# Altium schematic symbol library WR-TBL_Spring Clamp.SchLib: 367 symbols (part 2 of 6)
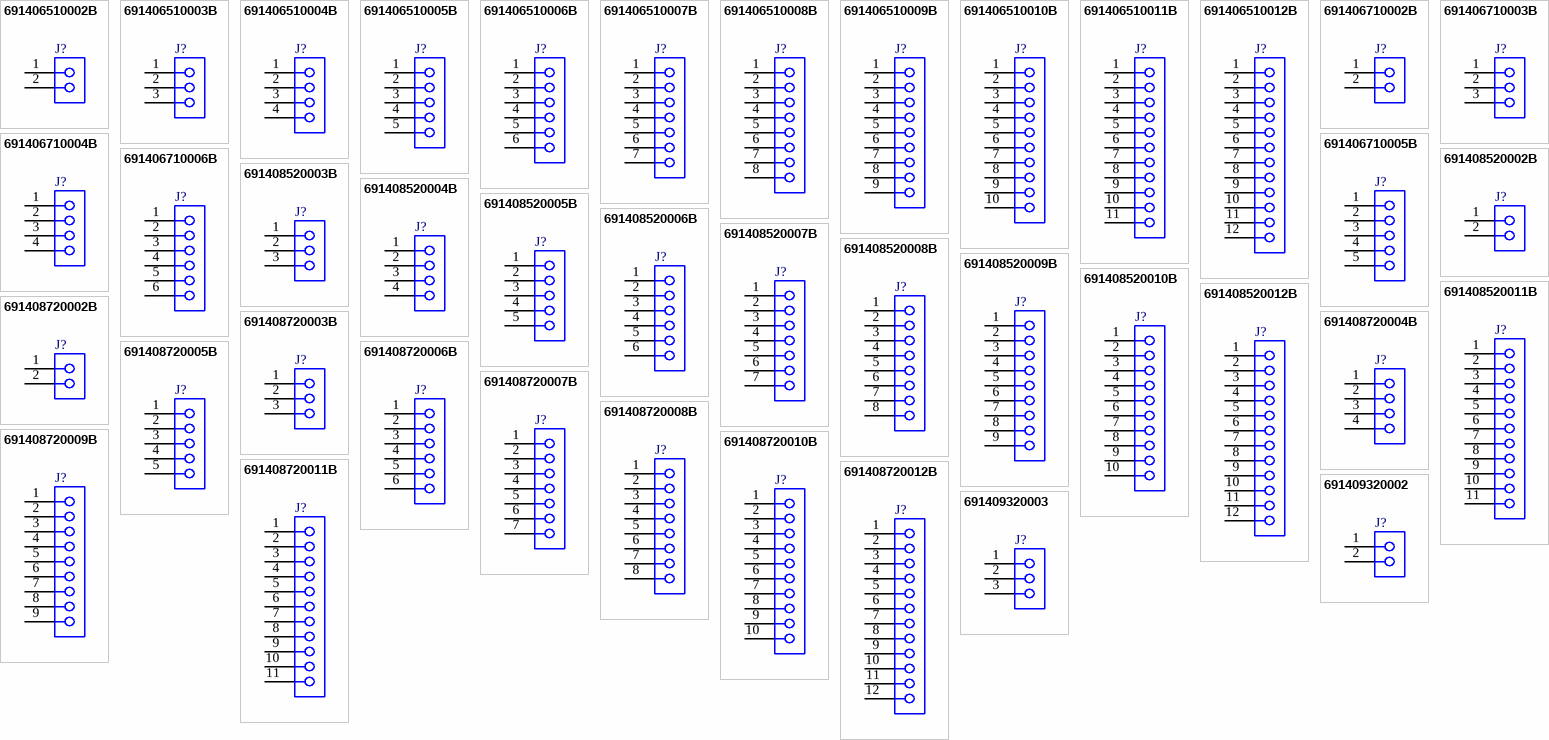
[diagram p10: symbols 691406510002B to 691409320003]

## 691408520007B
designator J?  (value not drawn)
WR-TBL Series 4085B Screwless Push In 45° cable entry, THT, pitch 5.08mm, 07p; Manufacturer: Wurth Elektronik; Modularity: Yes; Rated Current: 15A; Working Voltage: 300V (AC); Manufacturer Part Number: 691408520007B; Product Series: WR-TBL; ComponentLink1Description: Website Link; ComponentLink1URL: https://www.we-online.com; ComponentLink2Description: Datasheet Link; ComponentLink2URL: https://www.we-online.com/components/products/datasheet/691408520007B; Mount: Through Hole; Operating Temperature Min: -40degC; Operating Temperature Max: 105degC; Packaging: Carton; Application: Screwless Push In; Number of Pins: 7; Number of Rows: 1; Orientation: 45deg Cable Entry; Lead Pitch: 5.08mm
footprint 691408520007B
pins: 1, 2, 3, 4, 5, 6, 7

## 691408520008B
designator J?  (value not drawn)
WR-TBL Series 4085B Screwless Push In 45° cable entry, THT, pitch 5.08mm, 08p; Manufacturer: Wurth Elektronik; Modularity: Yes; Rated Current: 15A; Working Voltage: 300V (AC); Manufacturer Part Number: 691408520008B; Product Series: WR-TBL; ComponentLink1Description: Website Link; ComponentLink1URL: https://www.we-online.com; ComponentLink2Description: Datasheet Link; ComponentLink2URL: https://www.we-online.com/components/products/datasheet/691408520008B; Mount: Through Hole; Operating Temperature Min: -40degC; Operating Temperature Max: 105degC; Packaging: Carton; Application: Screwless Push In; Number of Pins: 8; Number of Rows: 1; Orientation: 45deg Cable Entry; Lead Pitch: 5.08mm
footprint 691408520008B
pins: 1, 2, 3, 4, 5, 6, 7, 8

## 691408520009B
designator J?  (value not drawn)
WR-TBL Series 4085B Screwless Push In 45° cable entry, THT, pitch 5.08mm, 09p; Manufacturer: Wurth Elektronik; Modularity: Yes; Rated Current: 15A; Working Voltage: 300V (AC); Manufacturer Part Number: 691408520009B; Product Series: WR-TBL; ComponentLink1Description: Website Link; ComponentLink1URL: https://www.we-online.com; ComponentLink2Description: Datasheet Link; ComponentLink2URL: https://www.we-online.com/components/products/datasheet/691408520009B; Mount: Through Hole; Operating Temperature Min: -40degC; Operating Temperature Max: 105degC; Packaging: Carton; Application: Screwless Push In; Number of Pins: 9; Number of Rows: 1; Orientation: 45deg Cable Entry; Lead Pitch: 5.08mm
footprint 691408520009B
pins: 1, 2, 3, 4, 5, 6, 7, 8, 9

## 691408520010B
designator J?  (value not drawn)
WR-TBL Series 4085B Screwless Push In 45° cable entry, THT, pitch 5.08mm, 10p; Manufacturer: Wurth Elektronik; Modularity: Yes; Rated Current: 15A; Working Voltage: 300V (AC); Manufacturer Part Number: 691408520010B; Product Series: WR-TBL; ComponentLink1Description: Website Link; ComponentLink1URL: https://www.we-online.com; ComponentLink2Description: Datasheet Link; ComponentLink2URL: https://www.we-online.com/components/products/datasheet/691408520010B; Mount: Through Hole; Operating Temperature Min: -40degC; Operating Temperature Max: 105degC; Packaging: Carton; Application: Screwless Push In; Number of Pins: 10; Number of Rows: 1; Orientation: 45deg Cable Entry; Lead Pitch: 5.08mm
footprint 691408520010B
pins: 1, 2, 3, 4, 5, 6, 7, 8, 9, 10

## 691408520011B
designator J?  (value not drawn)
WR-TBL Series 4085B Screwless Push In 45° cable entry, THT, pitch 5.08mm, 11p; Manufacturer: Wurth Elektronik; Modularity: Yes; Rated Current: 15A; Working Voltage: 300V (AC); Manufacturer Part Number: 691408520011B; Product Series: WR-TBL; ComponentLink1Description: Website Link; ComponentLink1URL: https://www.we-online.com; ComponentLink2Description: Datasheet Link; ComponentLink2URL: https://www.we-online.com/components/products/datasheet/691408520011B; Mount: Through Hole; Operating Temperature Min: -40degC; Operating Temperature Max: 105degC; Packaging: Carton; Application: Screwless Push In; Number of Pins: 11; Number of Rows: 1; Orientation: 45deg Cable Entry; Lead Pitch: 5.08mm
footprint 691408520011B
pins: 1, 2, 3, 4, 5, 6, 7, 8, 9, 10, 11

## 691408520012B
designator J?  (value not drawn)
WR-TBL Series 4085B Screwless Push In 45° cable entry, THT, pitch 5.08mm, 12p; Manufacturer: Wurth Elektronik; Modularity: Yes; Rated Current: 15A; Working Voltage: 300V (AC); Manufacturer Part Number: 691408520012B; Product Series: WR-TBL; ComponentLink1Description: Website Link; ComponentLink1URL: https://www.we-online.com; ComponentLink2Description: Datasheet Link; ComponentLink2URL: https://www.we-online.com/components/products/datasheet/691408520012B; Mount: Through Hole; Operating Temperature Min: -40degC; Operating Temperature Max: 105degC; Packaging: Carton; Application: Screwless Push In; Number of Pins: 12; Number of Rows: 1; Orientation: 45deg Cable Entry; Lead Pitch: 5.08mm
footprint 691408520012B
pins: 1, 2, 3, 4, 5, 6, 7, 8, 9, 10, 11, 12

## 691408720002B
designator J?  (value not drawn)
WR-TBL Series 4087B 45° cable entry, THT, pitch 5mm, 02p; Manufacturer: Wurth Elektronik; Modularity: Yes; Rated Current: 15A; Wire Section: 28 to 12 (AWG) 0.2 to 2.5 (mm^2); Working Voltage: 300V (AC); Manufacturer Part Number: 691408720002B; Product Series: WR-TBL; ComponentLink1Description: Website Link; ComponentLink1URL: https://www.we-online.com; ComponentLink2Description: Datasheet Link; ComponentLink2URL: https://www.we-online.com/components/products/datasheet/691408720002B; Mount: Through Hole; Operating Temperature Min: -40degC; Operating Temperature Max: 105degC; Packaging: Carton; Application: Screwless Push In; Number of Pins: 2; Number of Rows: 1; Orientation: 45deg Cable Entry; Lead Pitch: 5mm
footprint 691408720002B
pins: 1, 2

## 691408720003B
designator J?  (value not drawn)
WR-TBL Series 4087B 45° cable entry, THT, pitch 5mm, 03p; Manufacturer: Wurth Elektronik; Modularity: Yes; Rated Current: 15A; Wire Section: 28 to 12 (AWG) 0.2 to 2.5 (mm^2); Working Voltage: 300V (AC); Manufacturer Part Number: 691408720003B; Product Series: WR-TBL; ComponentLink1Description: Website Link; ComponentLink1URL: https://www.we-online.com; ComponentLink2Description: Datasheet Link; ComponentLink2URL: https://www.we-online.com/components/products/datasheet/691408720003B; Mount: Through Hole; Operating Temperature Min: -40degC; Operating Temperature Max: 105degC; Packaging: Carton; Application: Screwless Push In; Number of Pins: 3; Number of Rows: 1; Orientation: 45deg Cable Entry; Lead Pitch: 5mm
footprint 691408720003B
pins: 1, 2, 3

## 691408720004B
designator J?  (value not drawn)
WR-TBL Series 4087B 45° cable entry, THT, pitch 5mm, 04p; Manufacturer: Wurth Elektronik; Modularity: Yes; Rated Current: 15A; Wire Section: 28 to 12 (AWG) 0.2 to 2.5 (mm^2); Working Voltage: 300V (AC); Manufacturer Part Number: 691408720004B; Product Series: WR-TBL; ComponentLink1Description: Website Link; ComponentLink1URL: https://www.we-online.com; ComponentLink2Description: Datasheet Link; ComponentLink2URL: https://www.we-online.com/components/products/datasheet/691408720004B; Mount: Through Hole; Operating Temperature Min: -40degC; Operating Temperature Max: 105degC; Packaging: Carton; Application: Screwless Push In; Number of Pins: 4; Number of Rows: 1; Orientation: 45deg Cable Entry; Lead Pitch: 5mm
footprint 691408720004B
pins: 1, 2, 3, 4

## 691408720005B
designator J?  (value not drawn)
WR-TBL Series 4087B 45° cable entry, THT, pitch 5mm, 05p; Manufacturer: Wurth Elektronik; Modularity: Yes; Rated Current: 15A; Wire Section: 28 to 12 (AWG) 0.2 to 2.5 (mm^2); Working Voltage: 300V (AC); Manufacturer Part Number: 691408720005B; Product Series: WR-TBL; ComponentLink1Description: Website Link; ComponentLink1URL: https://www.we-online.com; ComponentLink2Description: Datasheet Link; ComponentLink2URL: https://www.we-online.com/components/products/datasheet/691408720005B; Mount: Through Hole; Operating Temperature Min: -40degC; Operating Temperature Max: 105degC; Packaging: Carton; Application: Screwless Push In; Number of Pins: 5; Number of Rows: 1; Orientation: 45deg Cable Entry; Lead Pitch: 5mm
footprint 691408720005B
pins: 1, 2, 3, 4, 5

## 691408720006B
designator J?  (value not drawn)
WR-TBL Series 4087B 45° cable entry, THT, pitch 5mm, 06p; Manufacturer: Wurth Elektronik; Modularity: Yes; Rated Current: 15A; Wire Section: 28 to 12 (AWG) 0.2 to 2.5 (mm^2); Working Voltage: 300V (AC); Manufacturer Part Number: 691408720006B; Product Series: WR-TBL; ComponentLink1Description: Website Link; ComponentLink1URL: https://www.we-online.com; ComponentLink2Description: Datasheet Link; ComponentLink2URL: https://www.we-online.com/components/products/datasheet/691408720006B; Mount: Through Hole; Operating Temperature Min: -40degC; Operating Temperature Max: 105degC; Packaging: Carton; Application: Screwless Push In; Number of Pins: 6; Number of Rows: 1; Orientation: 45deg Cable Entry; Lead Pitch: 5mm
footprint 691408720006B
pins: 1, 2, 3, 4, 5, 6

## 691408720007B
designator J?  (value not drawn)
WR-TBL Series 4087B 45° cable entry, THT, pitch 5mm, 07p; Manufacturer: Wurth Elektronik; Modularity: Yes; Rated Current: 15A; Working Voltage: 300V (AC); Manufacturer Part Number: 691408720007B; Product Series: WR-TBL; ComponentLink1Description: Website Link; ComponentLink1URL: https://www.we-online.com; ComponentLink2Description: Datasheet Link; ComponentLink2URL: https://www.we-online.com/components/products/datasheet/691408720007B; Mount: Through Hole; Operating Temperature Min: -40degC; Operating Temperature Max: 105degC; Packaging: Carton; Application: Screwless Push In; Number of Pins: 7; Number of Rows: 1; Orientation: 45deg Cable Entry; Lead Pitch: 5mm
footprint 691408720007B
pins: 1, 2, 3, 4, 5, 6, 7

## 691408720008B
designator J?  (value not drawn)
WR-TBL Series 4087B 45° cable entry, THT, pitch 5mm, 08p; Manufacturer: Wurth Elektronik; Modularity: Yes; Rated Current: 15A; Working Voltage: 300V (AC); Manufacturer Part Number: 691408720008B; Product Series: WR-TBL; ComponentLink1Description: Website Link; ComponentLink1URL: https://www.we-online.com; ComponentLink2Description: Datasheet Link; ComponentLink2URL: https://www.we-online.com/components/products/datasheet/691408720008B; Mount: Through Hole; Operating Temperature Min: -40degC; Operating Temperature Max: 105degC; Packaging: Carton; Application: Screwless Push In; Number of Pins: 8; Number of Rows: 1; Orientation: 45deg Cable Entry; Lead Pitch: 5mm
footprint 691408720008B
pins: 1, 2, 3, 4, 5, 6, 7, 8

## 691408720009B
designator J?  (value not drawn)
WR-TBL Series 4087B 45° cable entry, THT, pitch 5mm, 09p; Manufacturer: Wurth Elektronik; Modularity: Yes; Rated Current: 15A; Working Voltage: 300V (AC); Manufacturer Part Number: 691408720009B; Product Series: WR-TBL; ComponentLink1Description: Website Link; ComponentLink1URL: https://www.we-online.com; ComponentLink2Description: Datasheet Link; ComponentLink2URL: https://www.we-online.com/components/products/datasheet/691408720009B; Mount: Through Hole; Operating Temperature Min: -40degC; Operating Temperature Max: 105degC; Packaging: Carton; Application: Screwless Push In; Number of Pins: 9; Number of Rows: 1; Orientation: 45deg Cable Entry; Lead Pitch: 5mm
footprint 691408720009B
pins: 1, 2, 3, 4, 5, 6, 7, 8, 9

## 691408720010B
designator J?  (value not drawn)
WR-TBL Series 4087B 45° cable entry, THT, pitch 5mm, 10p; Manufacturer: Wurth Elektronik; Modularity: Yes; Rated Current: 15A; Working Voltage: 300V (AC); Manufacturer Part Number: 691408720010B; Product Series: WR-TBL; ComponentLink1Description: Website Link; ComponentLink1URL: https://www.we-online.com; ComponentLink2Description: Datasheet Link; ComponentLink2URL: https://www.we-online.com/components/products/datasheet/691408720010B; Mount: Through Hole; Operating Temperature Min: -40degC; Operating Temperature Max: 105degC; Packaging: Carton; Application: Screwless Push In; Number of Pins: 10; Number of Rows: 1; Orientation: 45deg Cable Entry; Lead Pitch: 5mm
footprint 691408720010B
pins: 1, 2, 3, 4, 5, 6, 7, 8, 9, 10

## 691408720011B
designator J?  (value not drawn)
WR-TBL Series 4087B 45° cable entry, THT, pitch 5mm, 11p; Manufacturer: Wurth Elektronik; Modularity: Yes; Rated Current: 15A; Working Voltage: 300V (AC); Manufacturer Part Number: 691408720011B; Product Series: WR-TBL; ComponentLink1Description: Website Link; ComponentLink1URL: https://www.we-online.com; ComponentLink2Description: Datasheet Link; ComponentLink2URL: https://www.we-online.com/components/products/datasheet/691408720011B; Mount: Through Hole; Operating Temperature Min: -40degC; Operating Temperature Max: 105degC; Packaging: Carton; Application: Screwless Push In; Number of Pins: 11; Number of Rows: 1; Orientation: 45deg Cable Entry; Lead Pitch: 5mm
footprint 691408720011B
pins: 1, 2, 3, 4, 5, 6, 7, 8, 9, 10, 11

## 691408720012B
designator J?  (value not drawn)
WR-TBL Series 4087B 45° cable entry, THT, pitch 5mm, 12p; Manufacturer: Wurth Elektronik; Modularity: Yes; Rated Current: 15A; Working Voltage: 300V (AC); Manufacturer Part Number: 691408720012B; Product Series: WR-TBL; ComponentLink1Description: Website Link; ComponentLink1URL: https://www.we-online.com; ComponentLink2Description: Datasheet Link; ComponentLink2URL: https://www.we-online.com/components/products/datasheet/691408720012B; Mount: Through Hole; Operating Temperature Min: -40degC; Operating Temperature Max: 105degC; Packaging: Carton; Application: Screwless Push In; Number of Pins: 12; Number of Rows: 1; Orientation: 45deg Cable Entry; Lead Pitch: 5mm
footprint 691408720012B
pins: 1, 2, 3, 4, 5, 6, 7, 8, 9, 10, 11, 12

## 691409320002
designator J?  (value not drawn)
WR-TBL Series 4093 Push In 45° cable entry, THT, pitch 3.81mm, 02p; Manufacturer: Wurth Elektronik; Modularity: Yes; Rated Current: 10A; Wire Section: 26 to 16 (AWG) 0.2 to 1.5 (mm^2); Working Voltage: 300V (AC); Manufacturer Part Number: 691409320002; Product Series: WR-TBL; ComponentLink1Description: Website Link; ComponentLink1URL: https://www.we-online.com; ComponentLink2Description: Datasheet Link; ComponentLink2URL: https://www.we-online.com/components/products/datasheet/691409320002; Mount: Through Hole; Operating Temperature Min: -40degC; Operating Temperature Max: 115degC; Packaging: Box; Application: Screwless Push In; Number of Pins: 2; Number of Rows: 1; Orientation: 45deg Cable Entry; Lead Pitch: 3.81mm
footprint 691409320002
pins: 1, 2

## 691409320003
designator J?  (value not drawn)
WR-TBL Series 4093 Push In 45° cable entry, THT, pitch 3.81mm, 03p; Manufacturer: Wurth Elektronik; Modularity: Yes; Rated Current: 10A; Wire Section: 26 to 16 (AWG) 0.2 to 1.5 (mm^2); Working Voltage: 300V (AC); Manufacturer Part Number: 691409320003; Product Series: WR-TBL; ComponentLink1Description: Website Link; ComponentLink1URL: https://www.we-online.com; ComponentLink2Description: Datasheet Link; ComponentLink2URL: https://www.we-online.com/components/products/datasheet/691409320003; Mount: Through Hole; Operating Temperature Min: -40degC; Operating Temperature Max: 115degC; Packaging: Box; Application: Screwless Push In; Number of Pins: 3; Number of Rows: 1; Orientation: 45deg Cable Entry; Lead Pitch: 3.81mm
footprint 691409320003
pins: 1, 2, 3

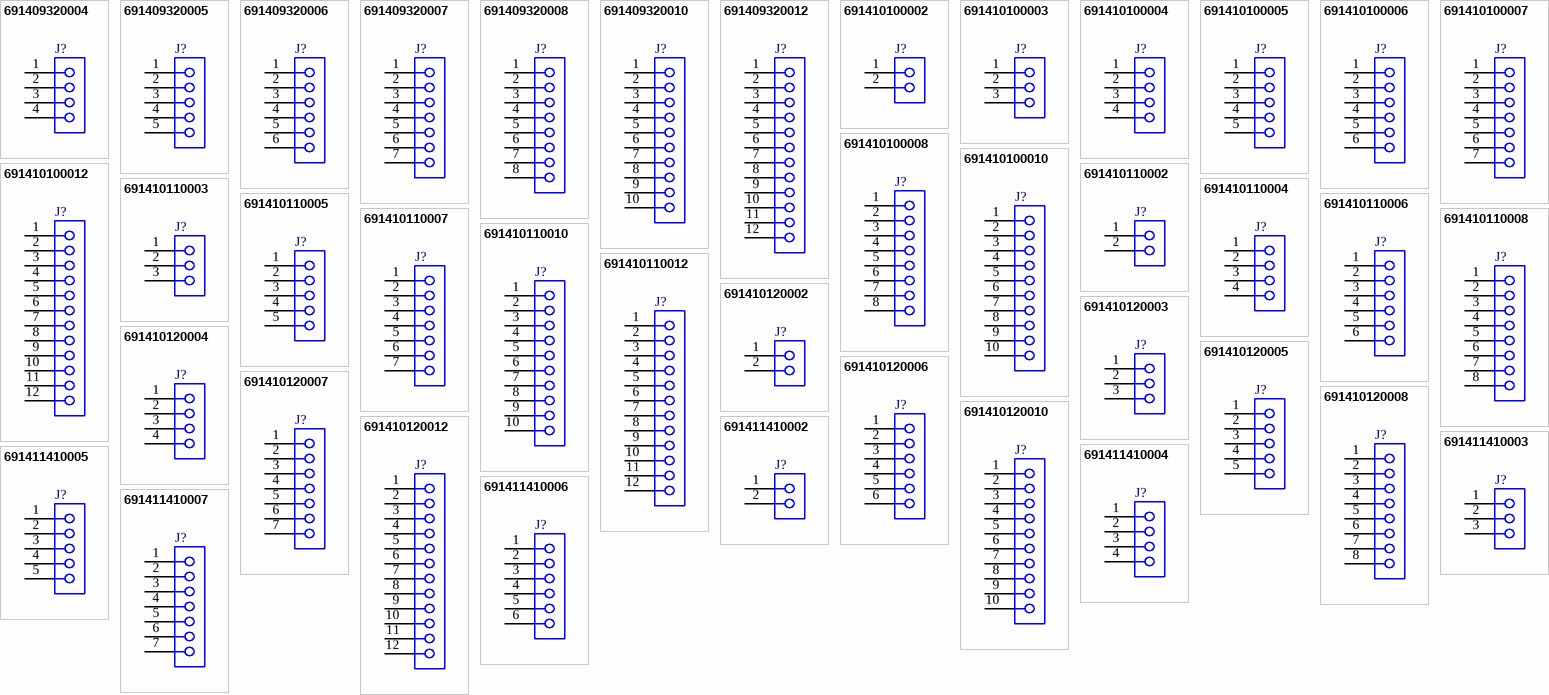
[diagram p2: symbols 691409320004 to 691411410007]

## 691409320004
designator J?  (value not drawn)
WR-TBL Series 4093 Push In 45° cable entry, THT, pitch 3.81mm, 04p; Manufacturer: Wurth Elektronik; Modularity: Yes; Rated Current: 10A; Wire Section: 26 to 16 (AWG) 0.2 to 1.5 (mm^2); Working Voltage: 300V (AC); Manufacturer Part Number: 691409320004; Product Series: WR-TBL; ComponentLink1Description: Website Link; ComponentLink1URL: https://www.we-online.com; ComponentLink2Description: Datasheet Link; ComponentLink2URL: https://www.we-online.com/components/products/datasheet/691409320004; Mount: Through Hole; Operating Temperature Min: -40degC; Operating Temperature Max: 115degC; Packaging: Box; Application: Screwless Push In; Number of Pins: 4; Number of Rows: 1; Orientation: 45deg Cable Entry; Lead Pitch: 3.81mm
footprint 691409320004
pins: 1, 2, 3, 4

## 691409320005
designator J?  (value not drawn)
WR-TBL Series 4093 Push In 45° cable entry, THT, pitch 3.81mm, 05p; Manufacturer: Wurth Elektronik; Modularity: Yes; Rated Current: 10A; Wire Section: 26 to 16 (AWG) 0.2 to 1.5 (mm^2); Working Voltage: 300V (AC); Manufacturer Part Number: 691409320005; Product Series: WR-TBL; ComponentLink1Description: Website Link; ComponentLink1URL: https://www.we-online.com; ComponentLink2Description: Datasheet Link; ComponentLink2URL: https://www.we-online.com/components/products/datasheet/691409320005; Mount: Through Hole; Operating Temperature Min: -40degC; Operating Temperature Max: 115degC; Packaging: Box; Application: Screwless Push In; Number of Pins: 5; Number of Rows: 1; Orientation: 45deg Cable Entry; Lead Pitch: 3.81mm
footprint 691409320005
pins: 1, 2, 3, 4, 5

## 691409320006
designator J?  (value not drawn)
WR-TBL Series 4093 Push In 45° cable entry, THT, pitch 3.81mm, 06p; Manufacturer: Wurth Elektronik; Modularity: Yes; Rated Current: 10A; Wire Section: 26 to 16 (AWG) 0.2 to 1.5 (mm^2); Working Voltage: 300V (AC); Manufacturer Part Number: 691409320006; Product Series: WR-TBL; ComponentLink1Description: Website Link; ComponentLink1URL: https://www.we-online.com; ComponentLink2Description: Datasheet Link; ComponentLink2URL: https://www.we-online.com/components/products/datasheet/691409320006; Mount: Through Hole; Operating Temperature Min: -40degC; Operating Temperature Max: 115degC; Packaging: Box; Application: Screwless Push In; Number of Pins: 6; Number of Rows: 1; Orientation: 45deg Cable Entry; Lead Pitch: 3.81mm
footprint 691409320006
pins: 1, 2, 3, 4, 5, 6

## 691409320007
designator J?  (value not drawn)
WR-TBL Series 4093 Push In 45° cable entry, THT, pitch 3.81mm, 07p; Manufacturer: Wurth Elektronik; Modularity: Yes; Rated Current: 10A; Wire Section: 26 to 16 (AWG) 0.2 to 1.5 (mm^2); Working Voltage: 300V (AC); Manufacturer Part Number: 691409320007; Product Series: WR-TBL; ComponentLink1Description: Website Link; ComponentLink1URL: https://www.we-online.com; ComponentLink2Description: Datasheet Link; ComponentLink2URL: https://www.we-online.com/components/products/datasheet/691409320007; Mount: Through Hole; Operating Temperature Min: -40degC; Operating Temperature Max: 115degC; Packaging: Box; Application: Screwless Push In; Number of Pins: 7; Number of Rows: 1; Orientation: 45deg Cable Entry; Lead Pitch: 3.81mm
footprint 691409320007
pins: 1, 2, 3, 4, 5, 6, 7

## 691409320008
designator J?  (value not drawn)
WR-TBL Series 4093 Push In 45° cable entry, THT, pitch 3.81mm, 08p; Manufacturer: Wurth Elektronik; Modularity: Yes; Rated Current: 10A; Wire Section: 26 to 16 (AWG) 0.2 to 1.5 (mm^2); Working Voltage: 300V (AC); Manufacturer Part Number: 691409320008; Product Series: WR-TBL; ComponentLink1Description: Website Link; ComponentLink1URL: https://www.we-online.com; ComponentLink2Description: Datasheet Link; ComponentLink2URL: https://www.we-online.com/components/products/datasheet/691409320008; Mount: Through Hole; Operating Temperature Min: -40degC; Operating Temperature Max: 115degC; Packaging: Box; Application: Screwless Push In; Number of Pins: 8; Number of Rows: 1; Orientation: 45deg Cable Entry; Lead Pitch: 3.81mm
footprint 691409320008
pins: 1, 2, 3, 4, 5, 6, 7, 8

## 691409320010
designator J?  (value not drawn)
WR-TBL Series 4093 Push In 45° cable entry, THT, pitch 3.81mm, 10p; Manufacturer: Wurth Elektronik; Modularity: Yes; Rated Current: 10A; Wire Section: 26 to 16 (AWG) 0.2 to 1.5 (mm^2); Working Voltage: 300V (AC); Manufacturer Part Number: 691409320010; Product Series: WR-TBL; ComponentLink1Description: Website Link; ComponentLink1URL: https://www.we-online.com; ComponentLink2Description: Datasheet Link; ComponentLink2URL: https://www.we-online.com/components/products/datasheet/691409320010; Mount: Through Hole; Operating Temperature Min: -40degC; Operating Temperature Max: 115degC; Packaging: Box; Application: Screwless Push In; Number of Pins: 10; Number of Rows: 1; Orientation: 45deg Cable Entry; Lead Pitch: 3.81mm
footprint 691409320010
pins: 1, 2, 3, 4, 5, 6, 7, 8, 9, 10

## 691409320012
designator J?  (value not drawn)
WR-TBL Series 4093 Push In 45° cable entry, THT, pitch 3.81mm, 12p; Manufacturer: Wurth Elektronik; Modularity: Yes; Rated Current: 10A; Wire Section: 26 to 16 (AWG) 0.2 to 1.5 (mm^2); Working Voltage: 300V (AC); Manufacturer Part Number: 691409320012; Product Series: WR-TBL; ComponentLink1Description: Website Link; ComponentLink1URL: https://www.we-online.com; ComponentLink2Description: Datasheet Link; ComponentLink2URL: https://www.we-online.com/components/products/datasheet/691409320012; Mount: Through Hole; Operating Temperature Min: -40degC; Operating Temperature Max: 115degC; Packaging: Box; Application: Screwless Push In; Number of Pins: 12; Number of Rows: 1; Orientation: 45deg Cable Entry; Lead Pitch: 3.81mm
footprint 691409320012
pins: 1, 2, 3, 4, 5, 6, 7, 8, 9, 10, 11, 12

## 691410100002
designator J?  (value not drawn)
WR-TBL Series 4101 Screwless Push In Vertical cable entry, THT, pitch 3.5mm, 02p; Manufacturer: Wurth Elektronik; Modularity: No; Rated Current: 7A; Wire Section: 22 to 16 (AWG) 0.2 to 1.5 (mm^2); Working Voltage: 300V (AC); Manufacturer Part Number: 691410100002; Product Series: WR-TBL; ComponentLink1Description: Website Link; ComponentLink1URL: https://www.we-online.com; ComponentLink2Description: Datasheet Link; ComponentLink2URL: https://www.we-online.com/components/products/datasheet/691410100002; Mount: Through Hole; Operating Temperature Min: -40degC; Operating Temperature Max: 110degC; Packaging: Carton; Application: Screwless Push In; Number of Pins: 2; Number of Rows: 1; Orientation: Vertical Cable Entry; Lead Pitch: 3.5mm
footprint 691410100002
pins: 1, 2

## 691410100003
designator J?  (value not drawn)
WR-TBL Series 4101 Screwless Push In Vertical cable entry, THT, pitch 3.5mm, 03p; Manufacturer: Wurth Elektronik; Modularity: No; Rated Current: 7A; Wire Section: 22 to 16 (AWG) 0.2 to 1.5 (mm^2); Working Voltage: 300V (AC); Manufacturer Part Number: 691410100003; Product Series: WR-TBL; ComponentLink1Description: Website Link; ComponentLink1URL: https://www.we-online.com; ComponentLink2Description: Datasheet Link; ComponentLink2URL: https://www.we-online.com/components/products/datasheet/691410100003; Mount: Through Hole; Operating Temperature Min: -40degC; Operating Temperature Max: 110degC; Packaging: Carton; Application: Screwless Push In; Number of Pins: 3; Number of Rows: 1; Orientation: Vertical Cable Entry; Lead Pitch: 3.5mm
footprint 691410100003
pins: 1, 2, 3

## 691410100004
designator J?  (value not drawn)
WR-TBL Series 4101 Screwless Push In Vertical cable entry, THT, pitch 3.5mm, 04p; Manufacturer: Wurth Elektronik; Modularity: No; Rated Current: 7A; Wire Section: 22 to 16 (AWG) 0.2 to 1.5 (mm^2); Working Voltage: 300V (AC); Manufacturer Part Number: 691410100004; Product Series: WR-TBL; ComponentLink1Description: Website Link; ComponentLink1URL: https://www.we-online.com; ComponentLink2Description: Datasheet Link; ComponentLink2URL: https://www.we-online.com/components/products/datasheet/691410100004; Mount: Through Hole; Operating Temperature Min: -40degC; Operating Temperature Max: 110degC; Packaging: Carton; Application: Screwless Push In; Number of Pins: 4; Number of Rows: 1; Orientation: Vertical Cable Entry; Lead Pitch: 3.5mm
footprint 691410100004
pins: 1, 2, 3, 4

## 691410100005
designator J?  (value not drawn)
WR-TBL Series 4101 Screwless Push In Vertical cable entry, THT, pitch 3.5mm, 05p; Manufacturer: Wurth Elektronik; Modularity: No; Rated Current: 7A; Wire Section: 22 to 16 (AWG) 0.2 to 1.5 (mm^2); Working Voltage: 300V (AC); Manufacturer Part Number: 691410100005; Product Series: WR-TBL; ComponentLink1Description: Website Link; ComponentLink1URL: https://www.we-online.com; ComponentLink2Description: Datasheet Link; ComponentLink2URL: https://www.we-online.com/components/products/datasheet/691410100005; Mount: Through Hole; Operating Temperature Min: -40degC; Operating Temperature Max: 110degC; Packaging: Carton; Application: Screwless Push In; Number of Pins: 5; Number of Rows: 1; Orientation: Vertical Cable Entry; Lead Pitch: 3.5mm
footprint 691410100005
pins: 1, 2, 3, 4, 5

## 691410100006
designator J?  (value not drawn)
WR-TBL Series 4101 Screwless Push In Vertical cable entry, THT, pitch 3.5mm, 06p; Manufacturer: Wurth Elektronik; Modularity: No; Rated Current: 7A; Wire Section: 22 to 16 (AWG) 0.2 to 1.5 (mm^2); Working Voltage: 300V (AC); Manufacturer Part Number: 691410100006; Product Series: WR-TBL; ComponentLink1Description: Website Link; ComponentLink1URL: https://www.we-online.com; ComponentLink2Description: Datasheet Link; ComponentLink2URL: https://www.we-online.com/components/products/datasheet/691410100006; Mount: Through Hole; Operating Temperature Min: -40degC; Operating Temperature Max: 110degC; Packaging: Carton; Application: Screwless Push In; Number of Pins: 6; Number of Rows: 1; Orientation: Vertical Cable Entry; Lead Pitch: 3.5mm
footprint 691410100006
pins: 1, 2, 3, 4, 5, 6

## 691410100007
designator J?  (value not drawn)
WR-TBL Series 4101 Screwless Push In Vertical cable entry, THT, pitch 3.5mm, 07p; Manufacturer: Wurth Elektronik; Modularity: No; Rated Current: 7A; Wire Section: 22 to 16 (AWG) 0.2 to 1.5 (mm^2); Working Voltage: 300V (AC); Manufacturer Part Number: 691410100007; Product Series: WR-TBL; ComponentLink1Description: Website Link; ComponentLink1URL: https://www.we-online.com; ComponentLink2Description: Datasheet Link; ComponentLink2URL: https://www.we-online.com/components/products/datasheet/691410100007; Mount: Through Hole; Operating Temperature Min: -40degC; Operating Temperature Max: 110degC; Packaging: Carton; Application: Screwless Push In; Number of Pins: 7; Number of Rows: 1; Orientation: Vertical Cable Entry; Lead Pitch: 3.5mm
footprint 691410100007
pins: 1, 2, 3, 4, 5, 6, 7

## 691410100008
designator J?  (value not drawn)
WR-TBL Series 4101 Screwless Push In Vertical cable entry, THT, pitch 3.5mm, 08p; Manufacturer: Wurth Elektronik; Modularity: No; Rated Current: 7A; Wire Section: 22 to 16 (AWG) 0.2 to 1.5 (mm^2); Working Voltage: 300V (AC); Manufacturer Part Number: 691410100008; Product Series: WR-TBL; ComponentLink1Description: Website Link; ComponentLink1URL: https://www.we-online.com; ComponentLink2Description: Datasheet Link; ComponentLink2URL: https://www.we-online.com/components/products/datasheet/691410100008; Mount: Through Hole; Operating Temperature Min: -40degC; Operating Temperature Max: 110degC; Packaging: Carton; Application: Screwless Push In; Number of Pins: 8; Number of Rows: 1; Orientation: Vertical Cable Entry; Lead Pitch: 3.5mm
footprint 691410100008
pins: 1, 2, 3, 4, 5, 6, 7, 8

## 691410100010
designator J?  (value not drawn)
WR-TBL Series 4101 Screwless Push In Vertical cable entry, THT, pitch 3.5mm, 10p; Manufacturer: Wurth Elektronik; Modularity: No; Rated Current: 7A; Wire Section: 22 to 16 (AWG) 0.2 to 1.5 (mm^2); Working Voltage: 300V (AC); Manufacturer Part Number: 691410100010; Product Series: WR-TBL; ComponentLink1Description: Website Link; ComponentLink1URL: https://www.we-online.com; ComponentLink2Description: Datasheet Link; ComponentLink2URL: https://www.we-online.com/components/products/datasheet/691410100010; Mount: Through Hole; Operating Temperature Min: -40degC; Operating Temperature Max: 110degC; Packaging: Carton; Application: Screwless Push In; Number of Pins: 10; Number of Rows: 1; Orientation: Vertical Cable Entry; Lead Pitch: 3.5mm
footprint 691410100010
pins: 1, 2, 3, 4, 5, 6, 7, 8, 9, 10

## 691410100012
designator J?  (value not drawn)
WR-TBL Series 4101 Screwless Push In Vertical cable entry, THT, pitch 3.5mm, 12p; Manufacturer: Wurth Elektronik; Modularity: No; Rated Current: 7A; Wire Section: 22 to 16 (AWG) 0.2 to 1.5 (mm^2); Working Voltage: 300V (AC); Manufacturer Part Number: 691410100012; Product Series: WR-TBL; ComponentLink1Description: Website Link; ComponentLink1URL: https://www.we-online.com; ComponentLink2Description: Datasheet Link; ComponentLink2URL: https://www.we-online.com/components/products/datasheet/691410100012; Mount: Through Hole; Operating Temperature Min: -40degC; Operating Temperature Max: 110degC; Packaging: Carton; Application: Screwless Push In; Number of Pins: 12; Number of Rows: 1; Orientation: Vertical Cable Entry; Lead Pitch: 3.5mm
footprint 691410100012
pins: 1, 2, 3, 4, 5, 6, 7, 8, 9, 10, 11, 12

## 691410110002
designator J?  (value not drawn)
WR-TBL Series 4101 Screwless Push In Horizontal cable entry, THT, pitch 3.5mm, 02p; Manufacturer: Wurth Elektronik; Modularity: No; Wire Section: 22 to 16 (AWG) 0.2 to 1.5 (mm^2); Manufacturer Part Number: 691410110002; Product Series: WR-TBL; ComponentLink1Description: Website Link; ComponentLink1URL: https://www.we-online.com; ComponentLink2Description: Datasheet Link; ComponentLink2URL: https://www.we-online.com/components/products/datasheet/691410110002; Mount: Through Hole; Operating Temperature Min: -40degC; Operating Temperature Max: 110degC; Packaging: Box; Application: Screwless Push In; Number of Pins: 2; Number of Rows: 1; Orientation: Horizontal Cable Entry; Lead Pitch: 3.5mm
footprint 691410110002
pins: 1, 2

## 691410110003
designator J?  (value not drawn)
WR-TBL Series 4101 Screwless Push In Horizontal cable entry, THT, pitch 3.5mm, 03p; Manufacturer: Wurth Elektronik; Modularity: No; Wire Section: 22 to 16 (AWG) 0.2 to 1.5 (mm^2); Manufacturer Part Number: 691410110003; Product Series: WR-TBL; ComponentLink1Description: Website Link; ComponentLink1URL: https://www.we-online.com; ComponentLink2Description: Datasheet Link; ComponentLink2URL: https://www.we-online.com/components/products/datasheet/691410110003; Mount: Through Hole; Operating Temperature Min: -40degC; Operating Temperature Max: 110degC; Packaging: Box; Application: Screwless Push In; Number of Pins: 3; Number of Rows: 1; Orientation: Horizontal Cable Entry; Lead Pitch: 3.5mm
footprint 691410110003
pins: 1, 2, 3

## 691410110004
designator J?  (value not drawn)
WR-TBL Series 4101 Screwless Push In Horizontal cable entry, THT, pitch 3.5mm, 04p; Manufacturer: Wurth Elektronik; Modularity: No; Wire Section: 22 to 16 (AWG) 0.2 to 1.5 (mm^2); Manufacturer Part Number: 691410110004; Product Series: WR-TBL; ComponentLink1Description: Website Link; ComponentLink1URL: https://www.we-online.com; ComponentLink2Description: Datasheet Link; ComponentLink2URL: https://www.we-online.com/components/products/datasheet/691410110004; Mount: Through Hole; Operating Temperature Min: -40degC; Operating Temperature Max: 110degC; Packaging: Box; Application: Screwless Push In; Number of Pins: 4; Number of Rows: 1; Orientation: Horizontal Cable Entry; Lead Pitch: 3.5mm
footprint 691410110004
pins: 1, 2, 3, 4

## 691410110005
designator J?  (value not drawn)
WR-TBL Series 4101 Screwless Push In Horizontal cable entry, THT, pitch 3.5mm, 05p; Manufacturer: Wurth Elektronik; Modularity: No; Wire Section: 22 to 16 (AWG) 0.2 to 1.5 (mm^2); Manufacturer Part Number: 691410110005; Product Series: WR-TBL; ComponentLink1Description: Website Link; ComponentLink1URL: https://www.we-online.com; ComponentLink2Description: Datasheet Link; ComponentLink2URL: https://www.we-online.com/components/products/datasheet/691410110005; Mount: Through Hole; Operating Temperature Min: -40degC; Operating Temperature Max: 110degC; Packaging: Box; Application: Screwless Push In; Number of Pins: 5; Number of Rows: 1; Orientation: Horizontal Cable Entry; Lead Pitch: 3.5mm
footprint 691410110005
pins: 1, 2, 3, 4, 5

## 691410110006
designator J?  (value not drawn)
WR-TBL Series 4101 Screwless Push In Horizontal cable entry, THT, pitch 3.5mm, 06p; Manufacturer: Wurth Elektronik; Modularity: No; Wire Section: 22 to 16 (AWG) 0.2 to 1.5 (mm^2); Manufacturer Part Number: 691410110006; Product Series: WR-TBL; ComponentLink1Description: Website Link; ComponentLink1URL: https://www.we-online.com; ComponentLink2Description: Datasheet Link; ComponentLink2URL: https://www.we-online.com/components/products/datasheet/691410110006; Mount: Through Hole; Operating Temperature Min: -40degC; Operating Temperature Max: 110degC; Packaging: Box; Application: Screwless Push In; Number of Pins: 6; Number of Rows: 1; Orientation: Horizontal Cable Entry; Lead Pitch: 3.5mm
footprint 691410110006
pins: 1, 2, 3, 4, 5, 6

## 691410110007
designator J?  (value not drawn)
WR-TBL Series 4101 Screwless Push In Horizontal cable entry, THT, pitch 3.5mm, 07p; Manufacturer: Wurth Elektronik; Modularity: No; Wire Section: 22 to 16 (AWG) 0.2 to 1.5 (mm^2); Manufacturer Part Number: 691410110007; Product Series: WR-TBL; ComponentLink1Description: Website Link; ComponentLink1URL: https://www.we-online.com; ComponentLink2Description: Datasheet Link; ComponentLink2URL: https://www.we-online.com/components/products/datasheet/691410110007; Mount: Through Hole; Operating Temperature Min: -40degC; Operating Temperature Max: 110degC; Packaging: Box; Application: Screwless Push In; Number of Pins: 7; Number of Rows: 1; Orientation: Horizontal Cable Entry; Lead Pitch: 3.5mm
footprint 691410110007
pins: 1, 2, 3, 4, 5, 6, 7

## 691410110008
designator J?  (value not drawn)
WR-TBL Series 4101 Screwless Push In Horizontal cable entry, THT, pitch 3.5mm, 08p; Manufacturer: Wurth Elektronik; Modularity: No; Wire Section: 22 to 16 (AWG) 0.2 to 1.5 (mm^2); Manufacturer Part Number: 691410110008; Product Series: WR-TBL; ComponentLink1Description: Website Link; ComponentLink1URL: https://www.we-online.com; ComponentLink2Description: Datasheet Link; ComponentLink2URL: https://www.we-online.com/components/products/datasheet/691410110008; Mount: Through Hole; Operating Temperature Min: -40degC; Operating Temperature Max: 110degC; Packaging: Box; Application: Screwless Push In; Number of Pins: 8; Number of Rows: 1; Orientation: Horizontal Cable Entry; Lead Pitch: 3.5mm
footprint 691410110008
pins: 1, 2, 3, 4, 5, 6, 7, 8

## 691410110010
designator J?  (value not drawn)
WR-TBL Series 4101 Screwless Push In Horizontal cable entry, THT, pitch 3.5mm, 10p; Manufacturer: Wurth Elektronik; Modularity: No; Wire Section: 22 to 16 (AWG) 0.2 to 1.5 (mm^2); Manufacturer Part Number: 691410110010; Product Series: WR-TBL; ComponentLink1Description: Website Link; ComponentLink1URL: https://www.we-online.com; ComponentLink2Description: Datasheet Link; ComponentLink2URL: https://www.we-online.com/components/products/datasheet/691410110010; Mount: Through Hole; Operating Temperature Min: -40degC; Operating Temperature Max: 110degC; Packaging: Box; Application: Screwless Push In; Number of Pins: 10; Number of Rows: 1; Orientation: Horizontal Cable Entry; Lead Pitch: 3.5mm
footprint 691410110010
pins: 1, 2, 3, 4, 5, 6, 7, 8, 9, 10

## 691410110012
designator J?  (value not drawn)
WR-TBL Series 4101 Screwless Push In Horizontal cable entry, THT, pitch 3.5mm, 12p; Manufacturer: Wurth Elektronik; Modularity: No; Wire Section: 22 to 16 (AWG) 0.2 to 1.5 (mm^2); Manufacturer Part Number: 691410110012; Product Series: WR-TBL; ComponentLink1Description: Website Link; ComponentLink1URL: https://www.we-online.com; ComponentLink2Description: Datasheet Link; ComponentLink2URL: https://www.we-online.com/components/products/datasheet/691410110012; Mount: Through Hole; Operating Temperature Min: -40degC; Operating Temperature Max: 110degC; Packaging: Box; Application: Screwless Push In; Number of Pins: 12; Number of Rows: 1; Orientation: Horizontal Cable Entry; Lead Pitch: 3.5mm
footprint 691410110012
pins: 1, 2, 3, 4, 5, 6, 7, 8, 9, 10, 11, 12

## 691410120002
designator J?  (value not drawn)
WR-TBL Series 4101 Screwless Push In 45° cable entry, THT, pitch 3.5mm, 02p; Manufacturer: Wurth Elektronik; Modularity: No; Wire Section: 22 to 16 (AWG) 0.2 to 1.5 (mm^2); Manufacturer Part Number: 691410120002; Product Series: WR-TBL; ComponentLink1Description: Website Link; ComponentLink1URL: https://www.we-online.com; ComponentLink2Description: Datasheet Link; ComponentLink2URL: https://www.we-online.com/components/products/datasheet/691410120002; Mount: Through Hole; Operating Temperature Min: -40degC; Operating Temperature Max: 110degC; Packaging: Box; Application: Screwless Push In; Number of Pins: 2; Number of Rows: 1; Orientation: 45deg Cable Entry; Lead Pitch: 3.5mm
footprint 691410120002
pins: 1, 2

## 691410120003
designator J?  (value not drawn)
WR-TBL Series 4101 Screwless Push In 45° cable entry, THT, pitch 3.5mm, 03p; Manufacturer: Wurth Elektronik; Modularity: No; Wire Section: 22 to 16 (AWG) 0.2 to 1.5 (mm^2); Manufacturer Part Number: 691410120003; Product Series: WR-TBL; ComponentLink1Description: Website Link; ComponentLink1URL: https://www.we-online.com; ComponentLink2Description: Datasheet Link; ComponentLink2URL: https://www.we-online.com/components/products/datasheet/691410120003; Mount: Through Hole; Operating Temperature Min: -40degC; Operating Temperature Max: 110degC; Packaging: Box; Application: Screwless Push In; Number of Pins: 3; Number of Rows: 1; Orientation: 45deg Cable Entry; Lead Pitch: 3.5mm
footprint 691410120003
pins: 1, 2, 3

## 691410120004
designator J?  (value not drawn)
WR-TBL Series 4101 Screwless Push In 45° cable entry, THT, pitch 3.5mm, 04p; Manufacturer: Wurth Elektronik; Modularity: No; Wire Section: 22 to 16 (AWG) 0.2 to 1.5 (mm^2); Manufacturer Part Number: 691410120004; Product Series: WR-TBL; ComponentLink1Description: Website Link; ComponentLink1URL: https://www.we-online.com; ComponentLink2Description: Datasheet Link; ComponentLink2URL: https://www.we-online.com/components/products/datasheet/691410120004; Mount: Through Hole; Operating Temperature Min: -40degC; Operating Temperature Max: 110degC; Packaging: Box; Application: Screwless Push In; Number of Pins: 4; Number of Rows: 1; Orientation: 45deg Cable Entry; Lead Pitch: 3.5mm
footprint 691410120004
pins: 1, 2, 3, 4

## 691410120005
designator J?  (value not drawn)
WR-TBL Series 4101 Screwless Push In 45° cable entry, THT, pitch 3.5mm, 05p; Manufacturer: Wurth Elektronik; Modularity: No; Wire Section: 22 to 16 (AWG) 0.2 to 1.5 (mm^2); Manufacturer Part Number: 691410120005; Product Series: WR-TBL; ComponentLink1Description: Website Link; ComponentLink1URL: https://www.we-online.com; ComponentLink2Description: Datasheet Link; ComponentLink2URL: https://www.we-online.com/components/products/datasheet/691410120005; Mount: Through Hole; Operating Temperature Min: -40degC; Operating Temperature Max: 110degC; Packaging: Box; Application: Screwless Push In; Number of Pins: 5; Number of Rows: 1; Orientation: 45deg Cable Entry; Lead Pitch: 3.5mm
footprint 691410120005
pins: 1, 2, 3, 4, 5

## 691410120006
designator J?  (value not drawn)
WR-TBL Series 4101 Screwless Push In 45° cable entry, THT, pitch 3.5mm, 06p; Manufacturer: Wurth Elektronik; Modularity: No; Wire Section: 22 to 16 (AWG) 0.2 to 1.5 (mm^2); Manufacturer Part Number: 691410120006; Product Series: WR-TBL; ComponentLink1Description: Website Link; ComponentLink1URL: https://www.we-online.com; ComponentLink2Description: Datasheet Link; ComponentLink2URL: https://www.we-online.com/components/products/datasheet/691410120006; Mount: Through Hole; Operating Temperature Min: -40degC; Operating Temperature Max: 110degC; Packaging: Box; Application: Screwless Push In; Number of Pins: 6; Number of Rows: 1; Orientation: 45deg Cable Entry; Lead Pitch: 3.5mm
footprint 691410120006
pins: 1, 2, 3, 4, 5, 6

## 691410120007
designator J?  (value not drawn)
WR-TBL Series 4101 Screwless Push In 45° cable entry, THT, pitch 3.5mm, 07p; Manufacturer: Wurth Elektronik; Modularity: No; Wire Section: 22 to 16 (AWG) 0.2 to 1.5 (mm^2); Manufacturer Part Number: 691410120007; Product Series: WR-TBL; ComponentLink1Description: Website Link; ComponentLink1URL: https://www.we-online.com; ComponentLink2Description: Datasheet Link; ComponentLink2URL: https://www.we-online.com/components/products/datasheet/691410120007; Mount: Through Hole; Operating Temperature Min: -40degC; Operating Temperature Max: 110degC; Packaging: Box; Application: Screwless Push In; Number of Pins: 7; Number of Rows: 1; Orientation: 45deg Cable Entry; Lead Pitch: 3.5mm
footprint 691410120007
pins: 1, 2, 3, 4, 5, 6, 7

## 691410120008
designator J?  (value not drawn)
WR-TBL Series 4101 Screwless Push In 45° cable entry, THT, pitch 3.5mm, 08p; Manufacturer: Wurth Elektronik; Modularity: No; Wire Section: 22 to 16 (AWG) 0.2 to 1.5 (mm^2); Manufacturer Part Number: 691410120008; Product Series: WR-TBL; ComponentLink1Description: Website Link; ComponentLink1URL: https://www.we-online.com; ComponentLink2Description: Datasheet Link; ComponentLink2URL: https://www.we-online.com/components/products/datasheet/691410120008; Mount: Through Hole; Operating Temperature Min: -40degC; Operating Temperature Max: 110degC; Packaging: Box; Application: Screwless Push In; Number of Pins: 8; Number of Rows: 1; Orientation: 45deg Cable Entry; Lead Pitch: 3.5mm
footprint 691410120008
pins: 1, 2, 3, 4, 5, 6, 7, 8

## 691410120010
designator J?  (value not drawn)
WR-TBL Series 4101 Screwless Push In 45° cable entry, THT, pitch 3.5mm, 10p; Manufacturer: Wurth Elektronik; Modularity: No; Wire Section: 22 to 16 (AWG) 0.2 to 1.5 (mm^2); Manufacturer Part Number: 691410120010; Product Series: WR-TBL; ComponentLink1Description: Website Link; ComponentLink1URL: https://www.we-online.com; ComponentLink2Description: Datasheet Link; ComponentLink2URL: https://www.we-online.com/components/products/datasheet/691410120010; Mount: Through Hole; Operating Temperature Min: -40degC; Operating Temperature Max: 110degC; Packaging: Box; Application: Screwless Push In; Number of Pins: 10; Number of Rows: 1; Orientation: 45deg Cable Entry; Lead Pitch: 3.5mm
footprint 691410120010
pins: 1, 2, 3, 4, 5, 6, 7, 8, 9, 10

## 691410120012
designator J?  (value not drawn)
WR-TBL Series 4101 Screwless Push In 45° cable entry, THT, pitch 3.5mm, 12p; Manufacturer: Wurth Elektronik; Modularity: No; Wire Section: 22 to 16 (AWG) 0.2 to 1.5 (mm^2); Manufacturer Part Number: 691410120012; Product Series: WR-TBL; ComponentLink1Description: Website Link; ComponentLink1URL: https://www.we-online.com; ComponentLink2Description: Datasheet Link; ComponentLink2URL: https://www.we-online.com/components/products/datasheet/691410120012; Mount: Through Hole; Operating Temperature Min: -40degC; Operating Temperature Max: 110degC; Packaging: Box; Application: Screwless Push In; Number of Pins: 12; Number of Rows: 1; Orientation: 45deg Cable Entry; Lead Pitch: 3.5mm
footprint 691410120012
pins: 1, 2, 3, 4, 5, 6, 7, 8, 9, 10, 11, 12

## 691411410002
designator J?  (value not drawn)
WR-TBL Series 4114 Horizontal Cable Entry, THT, pitch 7.62mm, 02p; Manufacturer: Wurth Elektronik; Modularity: No; Rated Current: 10A; Wire Section: 16 to 30 (AWG) 0.5 to 1.5 (mm^2); Working Voltage: 300V (AC); Manufacturer Part Number: 691411410002; Product Series: WR-TBL; ComponentLink1Description: Website Link; ComponentLink1URL: https://www.we-online.com; ComponentLink2Description: Datasheet Link; ComponentLink2URL: https://www.we-online.com/components/products/datasheet/691411410002; Mount: Through Hole; Operating Temperature Min: -30degC; Operating Temperature Max: 120degC; Packaging: Box; Application: Screwless; Number of Pins: 2; Number of Rows: 1; Orientation: Horizontal; Lead Pitch: 7.62mm
footprint 691411410002
pins: 1, 2

## 691411410003
designator J?  (value not drawn)
WR-TBL Series 4114 Horizontal Cable Entry, THT, pitch 7.62mm, 03p; Manufacturer: Wurth Elektronik; Modularity: No; Rated Current: 10A; Wire Section: 16 to 30 (AWG) 0.5 to 1.5 (mm^2); Working Voltage: 300V (AC); Manufacturer Part Number: 691411410003; Product Series: WR-TBL; ComponentLink1Description: Website Link; ComponentLink1URL: https://www.we-online.com; ComponentLink2Description: Datasheet Link; ComponentLink2URL: https://www.we-online.com/components/products/datasheet/691411410003; Mount: Through Hole; Operating Temperature Min: -30degC; Operating Temperature Max: 120degC; Packaging: Box; Application: Screwless; Number of Pins: 3; Number of Rows: 1; Orientation: Horizontal; Lead Pitch: 7.62mm
footprint 691411410003
pins: 1, 2, 3

## 691411410004
designator J?  (value not drawn)
WR-TBL Series 4114 Horizontal Cable Entry, THT, pitch 7.62mm, 04p; Manufacturer: Wurth Elektronik; Modularity: No; Rated Current: 10A; Wire Section: 16 to 30 (AWG) 0.5 to 1.5 (mm^2); Working Voltage: 300V (AC); Manufacturer Part Number: 691411410004; Product Series: WR-TBL; ComponentLink1Description: Website Link; ComponentLink1URL: https://www.we-online.com; ComponentLink2Description: Datasheet Link; ComponentLink2URL: https://www.we-online.com/components/products/datasheet/691411410004; Mount: Through Hole; Operating Temperature Min: -30degC; Operating Temperature Max: 120degC; Packaging: Box; Application: Screwless; Number of Pins: 4; Number of Rows: 1; Orientation: Horizontal; Lead Pitch: 7.62mm
footprint 691411410004
pins: 1, 2, 3, 4

## 691411410005
designator J?  (value not drawn)
WR-TBL Series 4114 Horizontal Cable Entry, THT, pitch 7.62mm, 05p; Manufacturer: Wurth Elektronik; Modularity: No; Rated Current: 10A; Wire Section: 16 to 30 (AWG) 0.5 to 1.5 (mm^2); Working Voltage: 300V (AC); Manufacturer Part Number: 691411410005; Product Series: WR-TBL; ComponentLink1Description: Website Link; ComponentLink1URL: https://www.we-online.com; ComponentLink2Description: Datasheet Link; ComponentLink2URL: https://www.we-online.com/components/products/datasheet/691411410005; Mount: Through Hole; Operating Temperature Min: -30degC; Operating Temperature Max: 120degC; Packaging: Box; Application: Screwless; Number of Pins: 5; Number of Rows: 1; Orientation: Horizontal; Lead Pitch: 7.62mm
footprint 691411410005
pins: 1, 2, 3, 4, 5

## 691411410006
designator J?  (value not drawn)
WR-TBL Series 4114 Horizontal Cable Entry, THT, pitch 7.62mm, 06p; Manufacturer: Wurth Elektronik; Modularity: No; Rated Current: 10A; Wire Section: 16 to 30 (AWG) 0.5 to 1.5 (mm^2); Working Voltage: 300V (AC); Manufacturer Part Number: 691411410006; Product Series: WR-TBL; ComponentLink1Description: Website Link; ComponentLink1URL: https://www.we-online.com; ComponentLink2Description: Datasheet Link; ComponentLink2URL: https://www.we-online.com/components/products/datasheet/691411410006; Mount: Through Hole; Operating Temperature Min: -30degC; Operating Temperature Max: 120degC; Packaging: Box; Application: Screwless; Number of Pins: 6; Number of Rows: 1; Orientation: Horizontal; Lead Pitch: 7.62mm
footprint 691411410006
pins: 1, 2, 3, 4, 5, 6

## 691411410007
designator J?  (value not drawn)
WR-TBL Series 4114 Horizontal Cable Entry, THT, pitch 7.62mm, 07p; Manufacturer: Wurth Elektronik; Modularity: No; Rated Current: 10A; Wire Section: 16 to 30 (AWG) 0.5 to 1.5 (mm^2); Working Voltage: 300V (AC); Manufacturer Part Number: 691411410007; Product Series: WR-TBL; ComponentLink1Description: Website Link; ComponentLink1URL: https://www.we-online.com; ComponentLink2Description: Datasheet Link; ComponentLink2URL: https://www.we-online.com/components/products/datasheet/691411410007; Mount: Through Hole; Operating Temperature Min: -30degC; Operating Temperature Max: 120degC; Packaging: Box; Application: Screwless; Number of Pins: 7; Number of Rows: 1; Orientation: Horizontal; Lead Pitch: 7.62mm
footprint 691411410007
pins: 1, 2, 3, 4, 5, 6, 7

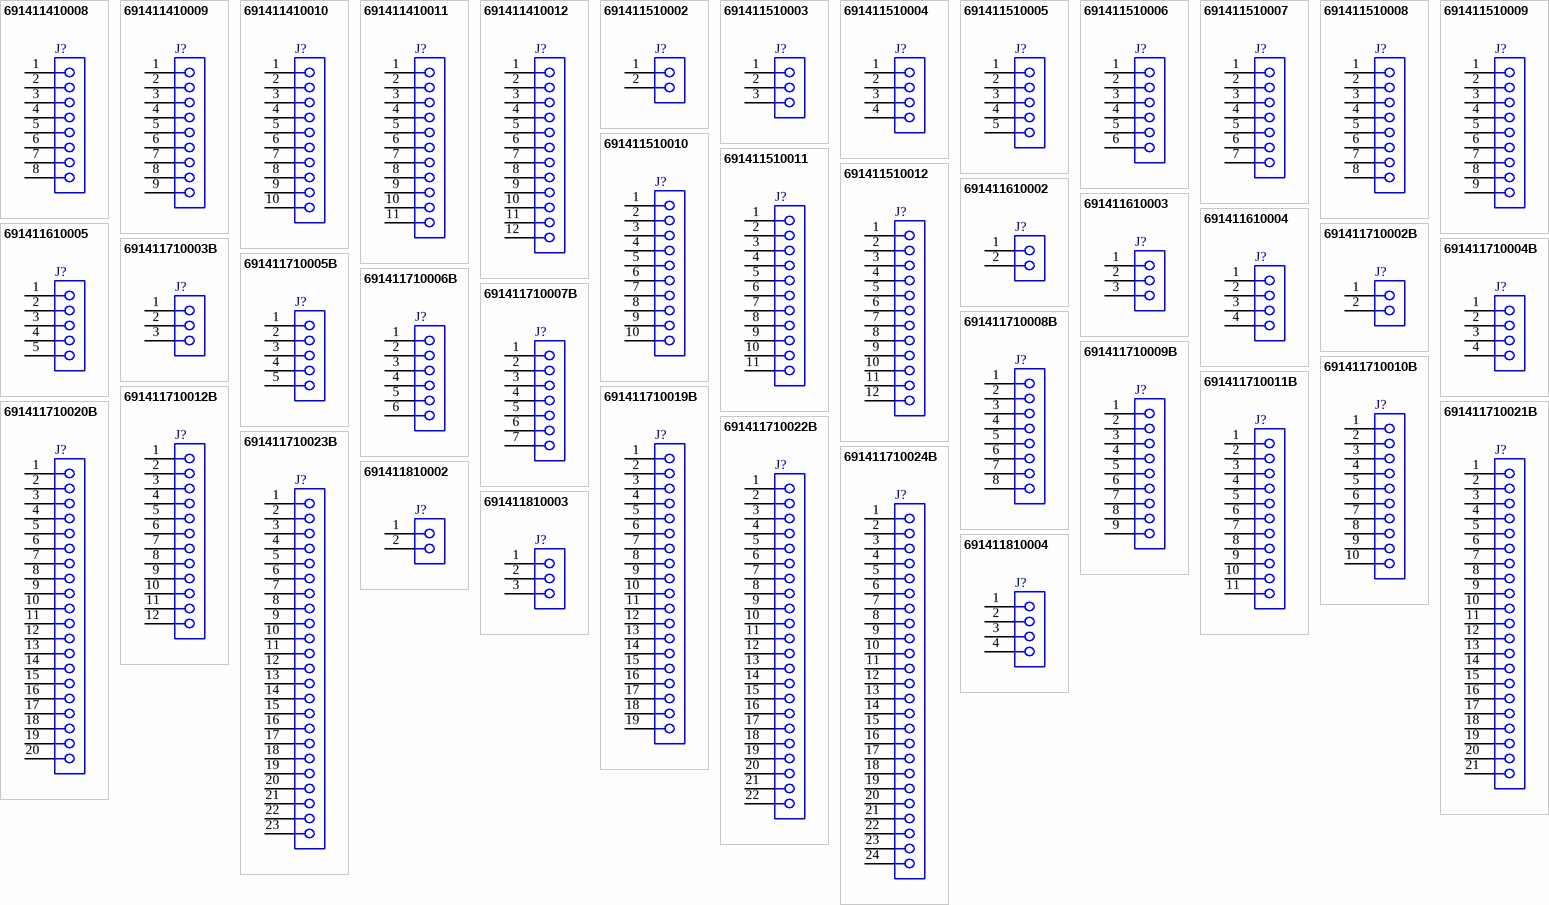
[diagram p3: symbols 691411410008 to 691411810004]

## 691411410008
designator J?  (value not drawn)
WR-TBL Series 4114 Horizontal Cable Entry, THT, pitch 7.62mm, 08p; Manufacturer: Wurth Elektronik; Modularity: No; Rated Current: 10A; Wire Section: 16 to 30 (AWG) 0.5 to 1.5 (mm^2); Working Voltage: 300V (AC); Manufacturer Part Number: 691411410008; Product Series: WR-TBL; ComponentLink1Description: Website Link; ComponentLink1URL: https://www.we-online.com; ComponentLink2Description: Datasheet Link; ComponentLink2URL: https://www.we-online.com/components/products/datasheet/691411410008; Mount: Through Hole; Operating Temperature Min: -30degC; Operating Temperature Max: 120degC; Packaging: Box; Application: Screwless; Number of Pins: 8; Number of Rows: 1; Orientation: Horizontal; Lead Pitch: 7.62mm
footprint 691411410008
pins: 1, 2, 3, 4, 5, 6, 7, 8

## 691411410009
designator J?  (value not drawn)
WR-TBL Series 4114 Horizontal Cable Entry, THT, pitch 7.62mm, 09p; Manufacturer: Wurth Elektronik; Modularity: No; Rated Current: 10A; Wire Section: 16 to 30 (AWG) 0.5 to 1.5 (mm^2); Working Voltage: 300V (AC); Manufacturer Part Number: 691411410009; Product Series: WR-TBL; ComponentLink1Description: Website Link; ComponentLink1URL: https://www.we-online.com; ComponentLink2Description: Datasheet Link; ComponentLink2URL: https://www.we-online.com/components/products/datasheet/691411410009; Mount: Through Hole; Operating Temperature Min: -30degC; Operating Temperature Max: 120degC; Packaging: Box; Application: Screwless; Number of Pins: 9; Number of Rows: 1; Orientation: Horizontal; Lead Pitch: 7.62mm
footprint 691411410009
pins: 1, 2, 3, 4, 5, 6, 7, 8, 9